# Altium footprint library Discrete.PcbLib: 53 footprints (part 2 of 4)
Each footprint in its own frame and in the unit in brackets; x right, y up, seen from the top. Pads: shape width x height; smd on the part's side, far side on the other; paste and mask are expansions set on the pad; w line width, h text height; cw(c..) or ccw(c..) is an arc to the next point about the centre after c.
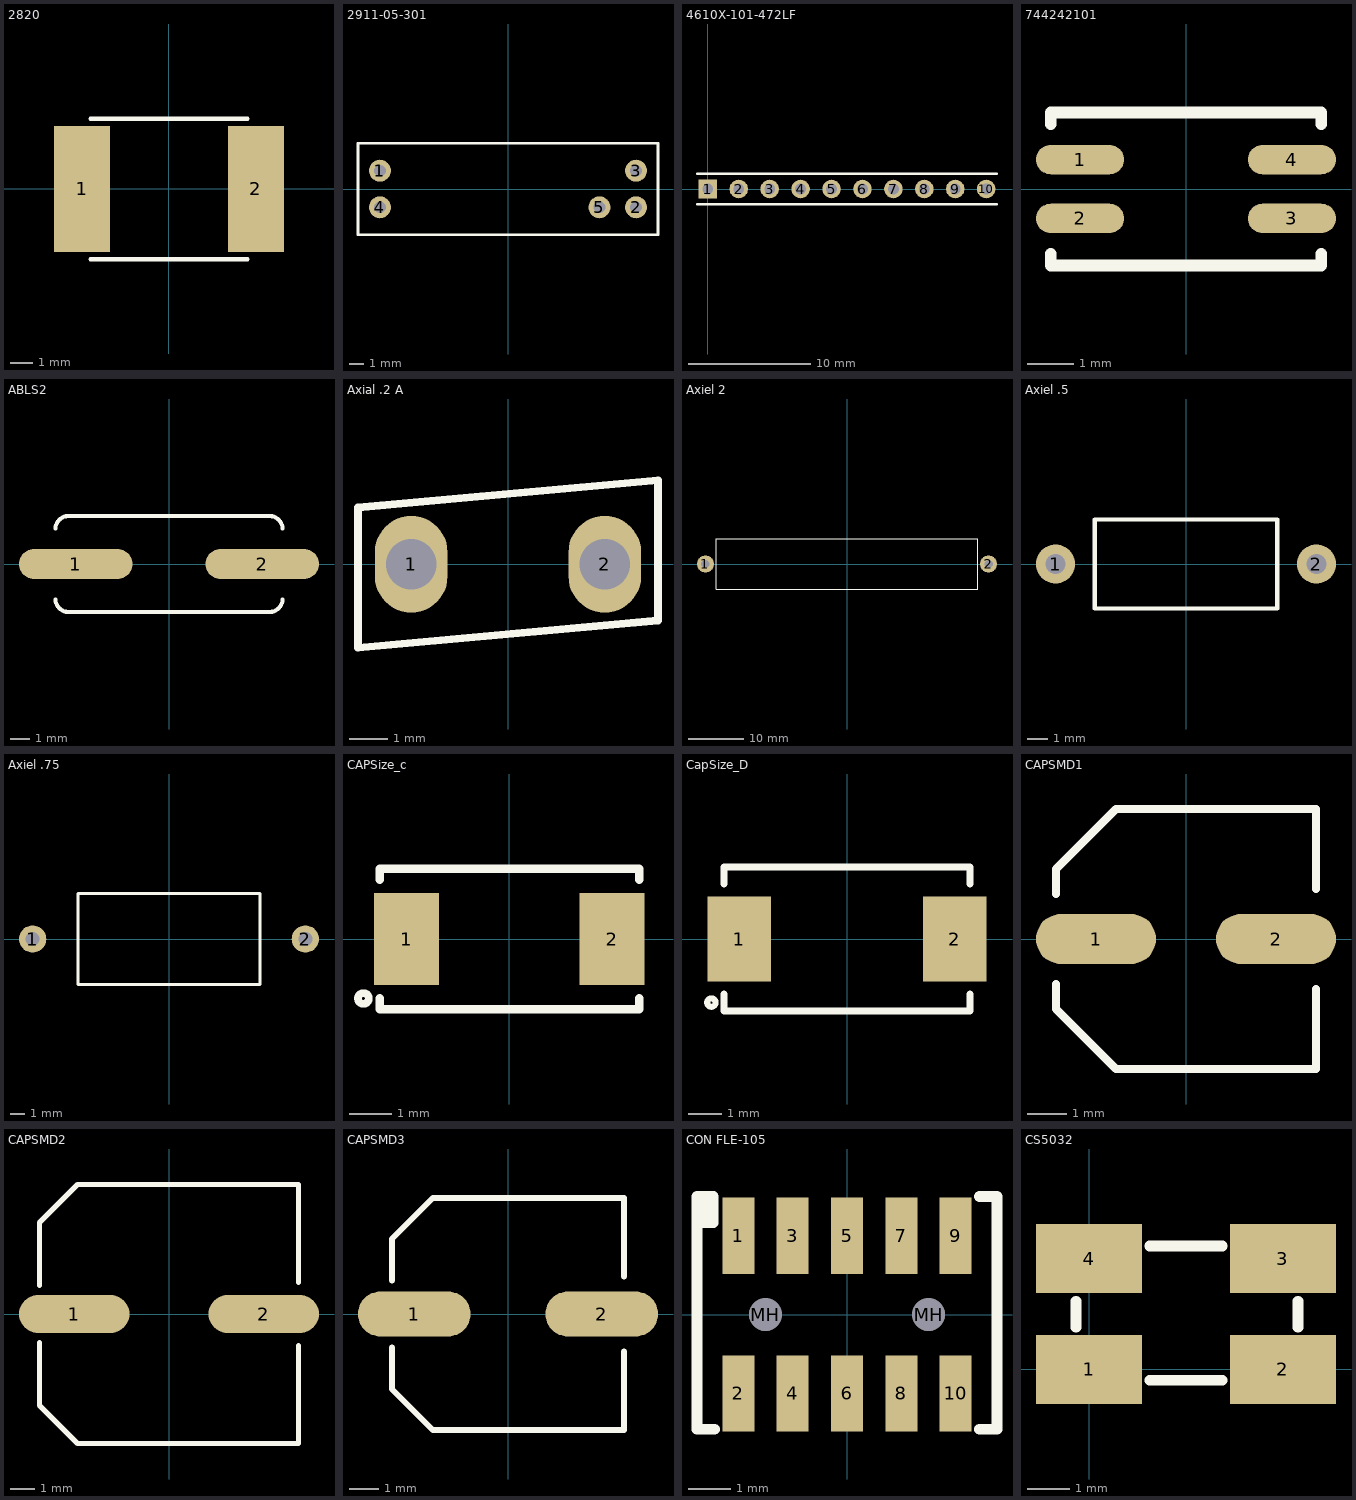
[diagram p1: the footprints below, top view; thin cyan lines are the x and y axes]

## 2820 [mil] "2820 SMD"
height 100
pads (2):
  rect 100x225 smd: 1(-155,0) 2(155,0)
Top Overlay:
  lines w8: -140,-125 140,-125 ; -140,125 140,125

## 2911-05-301 [mil] "SPDT Reed switch"
height 285
pads (5):
  round 60 hole 32: 1(-350,50) 2(350,-50) 3(350,50) 4(-350,-50) 5(250,-50)
Top Overlay:
  lines w8: -410,-125 -410,125 410,125 410,-125 -410,-125

## 4610X-101-472LF [mil] "Resistor Pack"
pads (10):
  rect 60x60 hole 35: 1(0,0)
  round 60 hole 35: 2(100,0) 3(200,0) 4(300,0) 5(400,0) 6(500,0) 7(600,0) 8(700,0) 9(800,0) 10(900,0)
Top Overlay:
  lines w8: -35,-50 935,-50 ; -35,50 935,50

## 744242101 [mil] "Common Mode Choke"
height 0.13
pads (4):
  oval 75x25 smd: 1(-90,25) 2(-90,-25) 3(90,-25) 4(90,25)
Top Overlay:
  lines w10: -115,-55 -115,-65 115,-65 115,-55 ; -115,55 -115,65 115,65 115,55

## ABLS2 [mil]
height 130
pads (2):
  oval 225x60 smd: 1(-185,0) 2(185,0)
Top Overlay:
  lines w8: -225,-70 ccw(c-200,-70) -200,-95 200,-95 ccw(c200,-70) 225,-70 ; -225,70 cw(c-200,70) -200,95 200,95 cw(c200,70) 225,70

## Axial .2 A [mil] "Axial Slant"
height 375
pads (2):
  oval 75x100 hole 52: 1(-100,0) 2(100,0)
Top Overlay:
  lines w8: -155,-86.36 -155,58.64 155,86.82 155,-58.18 -155,-86.36

## Axiel 2 [mil] "Axiel 2\""
height 370
pads (2):
  round 120 hole 60: 1(-1000,0) 2(1000,0)
Top Overlay:
  lines w8: -925,-180 925,-180 925,180 -925,180 -925,-180

## Axiel .5 [mil]
height 167
pads (2):
  round 75 hole 38: 1(-250,0) 2(250,0)
Top Overlay:
  lines w8: -175,-85 175,-85 175,85 -175,85 -175,-85

## Axiel .75 [mil]
pads (2):
  round 75 hole 38: 1(-375,0) 2(375,0)
Top Overlay:
  lines w8: -250,-125 -250,125 250,125 250,-125 -250,-125

## CAPSize_c [mil]
pads (2):
  rect 60x85 smd: 1(-95,0) 2(95,0)
Top Overlay:
  circle w7: c-135,-55 r5
  lines w8: -120,-55 -120,-65 120,-65 120,-55 ; -120,55 -120,65 120,65 120,55
3D body: height 98.82, standoff 0, extent -117.99,-63 117.99,62.98

## CapSize_D [mil]
pads (2):
  rect 75x100 smd: 1(-127,0) 2(127,0)
Top Overlay:
  circle w7: c-160,-75 r5
  lines w8: -145,-65 -145,-85 145,-85 145,-65 ; -145,65 -145,85 145,85 145,65
3D body: height 112.63, standoff 2, extent -143.59,-85 143.59,84.29

## CAPSMD1 [mil] "Cap SMD General Footprint"
height 210
pads (2):
  oval 120x50 smd: 1(-90,0) 2(90,0)
Top Overlay:
  lines w8: -130,-45 -130,-70 -70,-130 130,-130 130,-50 ; -130,45 -130,70 -70,130 130,130 130,50
3D body: height 212.8, standoff -0.2, extent -137.8,-130 137.8,129.84

## CAPSMD2 [mil] "Cap SMD General"
height 453
pads (2):
  oval 175x60 smd: 1(-150,0) 2(150,0)
Top Overlay:
  lines w8: -205,-45 -205,-145 -145,-205 205,-205 205,-50 ; -205,45 -205,145 -145,205 205,205 205,50
3D body: height 401.77, standoff -0.2, extent -230,-200.51 226.69,205

## CAPSMD3 [mil] "Cap SMD General 3"
height 212
pads (2):
  oval 150x60 smd: 1(-125,0) 2(125,0)
Top Overlay:
  lines w8: -155,-45 -155,-100 -100,-155 155,-155 155,-50 ; -155,45 -155,100 -100,155 155,155 155,50
3D body: height 303.35, standoff -0.2, extent -135,-129.84 140.59,130

## CON FLE-105 [mil] "Samtec FLE-105 Surface Mount Connector"
height 78.74
pads (12):
  rect 29.53x70 smd: 1(-100,72.5) 2(-100,-72.5) 3(-50,72.5) 4(-50,-72.5) 5(0,72.5) 6(0,-72.5) 7(50,72.5) 8(50,-72.5) 9(100,72.5) 10(100,-72.5)
  round 30 hole 30 unplated: MH(-75,0) MH(75,0)
Top Overlay:
  lines w10: -130,102.5 -130,92.5 -138,84.5 -123,84.5 -123,108.5 -138,108.5 -138,-105.5 -122,-105.5 ; 122,-105.5 138,-105.5 138,108.5 122,108.5
3D body: height 179.6, standoff 0.6, extent -127.25,-91 127.25,90

## CS5032 [mil]
pads (4):
  rect 98x64 smd: 1(0,0) 2(179.13,0) 3(179.13,102.36) 4(0,102.36)
Top Overlay:
  lines w10: -12,39 -12,63 ; 56,-10 123,-10 ; 56,114 123,114 ; 193,39 193,63
  text "." at -15,-51 h60
3D body: height 39.37, standoff 0, extent -8,-11 188.85,114.98